# EAGLE library part TSW-S-50_S (library con-samtec-tsw)
HEADER
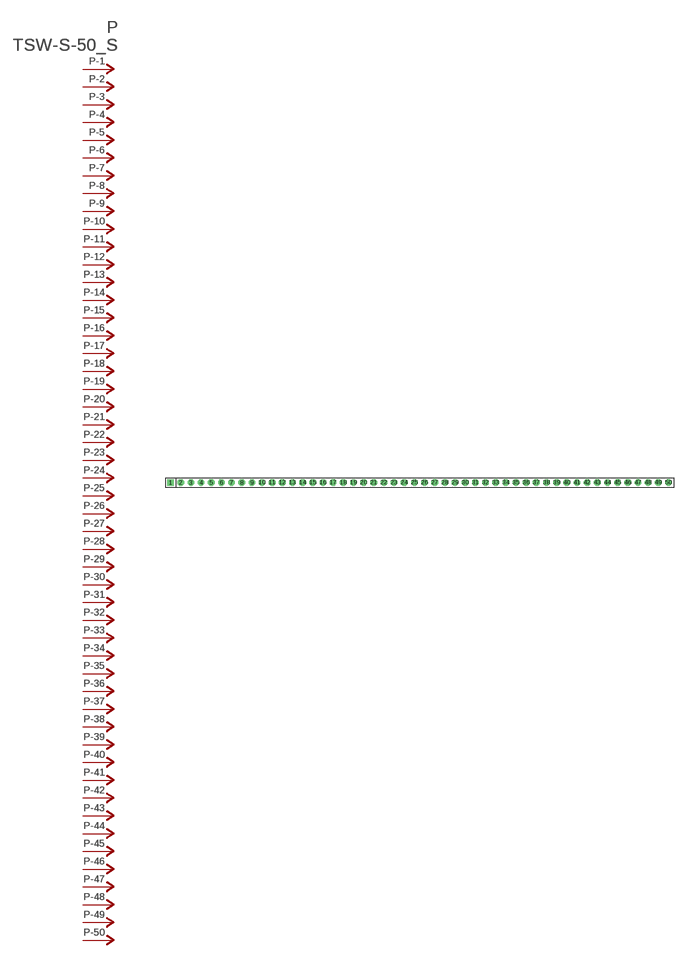
[diagram p89: symbol with the pads of TSW-S-50; footprint TSW-S-50]

Designator prefix P; gates -1=P-NV -2=P-N -3=P-N -4=P-N -5=P-N -6=P-N -7=P-N -8=P-N -9=P-N -10=P-N -11=P-N -12=P-N -13=P-N -14=P-N -15=P-N -16=P-N -17=P-N -18=P-N -19=P-N -20=P-N -21=P-N -22=P-N -23=P-N -24=P-N -25=P-N -26=P-N -27=P-N -28=P-N -29=P-N -30=P-N -31=P-N -32=P-N -33=P-N -34=P-N -35=P-N -36=P-N -37=P-N -38=P-N -39=P-N -40=P-N -41=P-N -42=P-N -43=P-N -44=P-N -45=P-N -46=P-N -47=P-N -48=P-N -49=P-N -50=P-N

## TSW-S-50_S  [TSW-S-50]
1  -1:P  pas
2  -2:P  pas
3  -3:P  pas
4  -4:P  pas
5  -5:P  pas
6  -6:P  pas
7  -7:P  pas
8  -8:P  pas
9  -9:P  pas
10  -10:P  pas
11  -11:P  pas
12  -12:P  pas
13  -13:P  pas
14  -14:P  pas
15  -15:P  pas
16  -16:P  pas
17  -17:P  pas
18  -18:P  pas
19  -19:P  pas
20  -20:P  pas
21  -21:P  pas
22  -22:P  pas
23  -23:P  pas
24  -24:P  pas
25  -25:P  pas
26  -26:P  pas
27  -27:P  pas
28  -28:P  pas
29  -29:P  pas
30  -30:P  pas
31  -31:P  pas
32  -32:P  pas
33  -33:P  pas
34  -34:P  pas
35  -35:P  pas
36  -36:P  pas
37  -37:P  pas
38  -38:P  pas
39  -39:P  pas
40  -40:P  pas
41  -41:P  pas
42  -42:P  pas
43  -43:P  pas
44  -44:P  pas
45  -45:P  pas
46  -46:P  pas
47  -47:P  pas
48  -48:P  pas
49  -49:P  pas
50  -50:P  pas

## Footprint TSW-S-50 (pad centres in mm)
HEADER
drill 0.914 pad 1.676 square: 1 -62.23,0
drill 0.914 pad 1.676 octagon: 2 -59.69,0; 3 -57.15,0; 4 -54.61,0; 5 -52.07,0; 6 -49.53,0; 7 -46.99,0; 8 -44.45,0; 9 -41.91,0; 10 -39.37,0; 11 -36.83,0; 12 -34.29,0; 13 -31.75,0; 14 -29.21,0; 15 -26.67,0; 16 -24.13,0; 17 -21.59,0; 18 -19.05,0; 19 -16.51,0; 20 -13.97,0; 21 -11.43,0; 22 -8.89,0; 23 -6.35,0; 24 -3.81,0; 25 -1.27,0; 26 1.27,0; 27 3.81,0; 28 6.35,0; 29 8.89,0; 30 11.43,0; 31 13.97,0; 32 16.51,0; 33 19.05,0; 34 21.59,0; 35 24.13,0; 36 26.67,0; 37 29.21,0; 38 31.75,0; 39 34.29,0; 40 36.83,0; 41 39.37,0; 42 41.91,0; 43 44.45,0; 44 46.99,0; 45 49.53,0; 46 52.07,0; 47 54.61,0; 48 57.15,0; 49 59.69,0; 50 62.23,0